# Altium schematic symbol library 0402_res_RC0402JR-0710KL.SchLib: 2 symbols
Pins are listed as number, name and electrical type; pins without a type are passive.

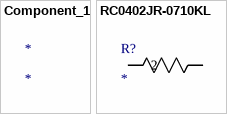
[diagram p0: symbols Component_1 to RC0402JR-0710KL]

## Component_1
designator *

## RC0402JR-0710KL
designator R?
No Description Available; Mfr_Name: Yageo
footprint RC0402N_YAG
pins: 1, 2